# Altium footprint library ESD_Suppressors_TVS_Diodes.PcbLib: 3 footprints
Each footprint in its own frame and in the unit in brackets; x right, y up, seen from the top. Pads: shape width x height; smd on the part's side, far side on the other; paste and mask are expansions set on the pad; w line width, h text height; cw(c..) or ccw(c..) is an arc to the next point about the centre after c.
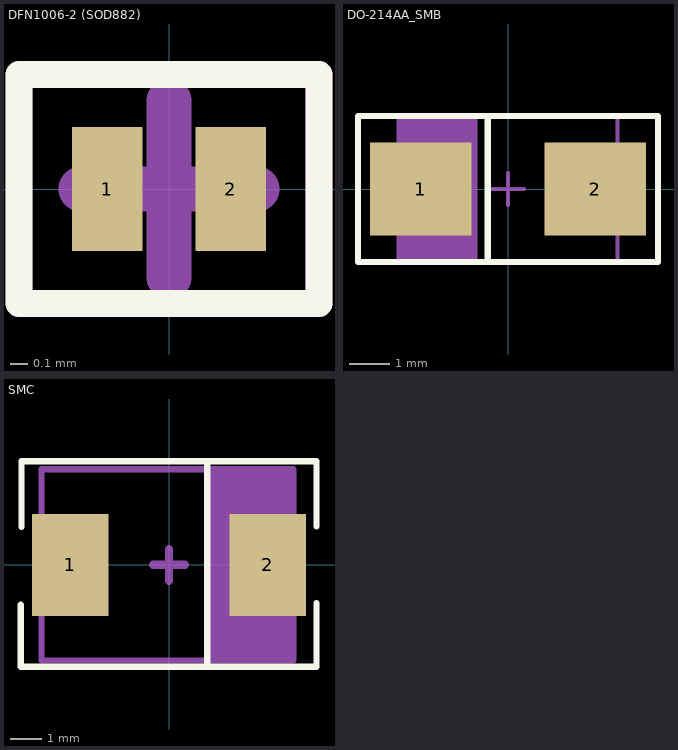
[diagram p0: the footprints below, top view; thin cyan lines are the x and y axes]

## DFN1006-2 (SOD882) [mm]
pads (2):
  rect 0.4x0.7 smd: 1(-0.35,0) 2(0.35,0)
Top Overlay:
  lines w0.153: -0.85,-0.65 -0.85,0.65 0.85,0.65 0.85,-0.65 -0.85,-0.65
Top Assembly:
  lines w0.153: -0.85,-0.65 -0.85,0.65 0.85,0.65 0.85,-0.65 -0.85,-0.65
  text "'.Designator'" at -0.647,0.995 h0.8
Mechanical 15:
  lines w0.254: -0.5,0 0.5,0 ; 0,-0.5 0,0.5
3D body "SOD-882D.step": height 0.43, standoff -0.04, extent -0.525,-0.325 0.525,0.325

## DO-214AA_SMB [mm]
pads (2):
  rect 2.5x2.3 smd: 1(-2.15,0) 2(2.15,0)
Top Overlay:
  lines w0.153: -0.5,-1.8 -0.5,1.8 ; -3.7,-1.8 3.7,-1.8 3.7,1.8 -3.7,1.8 -3.7,-1.8
Top Assembly:
  rectangle: -2.7,-1.8 -0.8,1.8
  lines w0.1: -0.8,-1.8 -0.8,1.775 ; -2.7,-1.8 -2.7,1.8 2.7,1.8 2.7,-1.8 -2.7,-1.8
  text "'.Designator'" at -3.297,2.72 h0.8
Mechanical 15:
  lines w0.1: -0.4,0 0,0 ; 0,-0.4 0,0 ; 0,0.4 0,0 ; 0.4,0 0,0 ; -2.7,-1.8 -2.7,1.8 2.7,1.8 2.7,-1.8 -2.7,-1.8
3D body "User Library-DO-214AA SMB.STEP": height 2.3, standoff 0, extent -2.7,-1.8 2.7,1.8

## SMC [mm]
pads (2):
  rect 2.4x3.2 smd paste+0 mask+0: 1(-3.105,0) 2(3.105,0)
Top Overlay:
  lines w0.2: -4.65,-1.25 -4.65,-3.2 4.625,-3.2 4.625,-1.2 ; -4.625,1.188 -4.625,3.25 4.625,3.25 4.625,1.2 ; 1.2,-3.2 1.2,3.25
Top Assembly:
  rectangle: 1.2,-3 3.9,3
  lines w0.2: 1.2,-3 1.2,3 ; -4,-3 3.9,-3 3.9,3 -4,3 -4,-3
  text "'.Designator'" at -3.522,4.07 h0.8
Mechanical 15:
  lines w0.2: -4,-3 -4,3 3.9,3 3.9,-3 -4,-3
  lines w0.254: -0.5,0 0.5,0 ; 0,-0.5 0,0.5
Mechanical 16:
  lines w0.1: -0.5,0 0.5,0 ; 0,-0.5 0,0.5
3D body "DO-214AB-SMC.STEP": height 2.4, standoff -0.05, extent -3.9,-2.95 3.9,2.95